# Altium schematic symbol library PCA9306_PcbLib.SchLib: 1 symbol
Pins are listed as number, name and electrical type; pins without a type are passive.

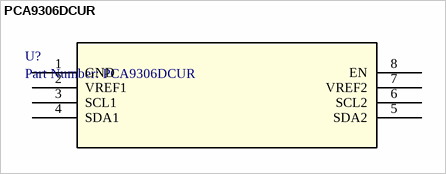
[diagram p0: symbol PCA9306DCUR]

## PCA9306DCUR
designator U?, comment Part Number: PCA9306DCUR
No Description Available; Manufacturer: Texas Instruments; Built_By: EMA_UL_Team; Vendor: Texas Instruments; Manufacturer_Part_Number: PCA9306DCUR; Copyright: Copyright (C) 2018 Accelerated Designs. All rights reserved; RefDes: RefDes; Type: DEV; Value: Value
footprint DCU8
pins: 1 GND (power), 2 VREF1 (power), 3 SCL1, 4 SDA1, 5 SDA2, 6 SCL2, 7 VREF2 (power), 8 EN